# EAGLE library part TDA7294* (library Audio-Power-amlifier V.2.0)
100V - 100W DMOS Audio Amplifier with Mute/Standby
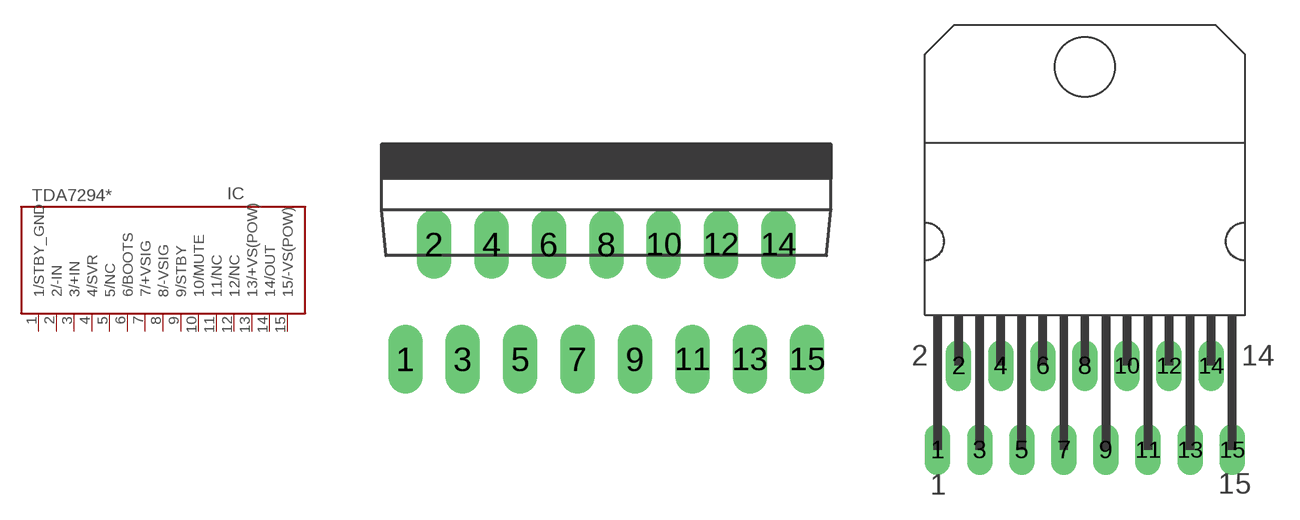
[diagram p13: symbol with the pads of MULTIWATT-15V; footprints MULTIWATT-15V, MULTIWATT-15H]

Designator prefix IC

## TDA7294VERTICAL  [MULTIWATT-15V]
1  1/STBY_GND  in
2  2/-IN  in
3  3/+IN  in
4  4/SVR
5  5/NC  nc
6  6/BOOTS
7  7/+VSIG  pwr
8  8/-VSIG  pwr
9  9/STBY  in
10  10/MUTE  in
11  11/NC  nc
12  12/NC  nc
13  13/+VS(POW)  pwr
14  14/OUT  out
15  15/-VS(POW)  pwr

## TDA7294HORIZONTAL  [MULTIWATT-15H]
Pads as for MULTIWATT-15V

## Footprint MULTIWATT-15V (pad centres in mm)
Multiwatt 15 vertical
drill 1.016 long: 1 -8.89,-5.08; 2 -7.62,0; 3 -6.35,-5.08; 4 -5.08,0; 5 -3.81,-5.08; 6 -2.54,0; 7 -1.27,-5.08; 8 0,0; 9 1.27,-5.08; 10 2.54,0; 11 3.81,-5.08; 12 5.08,0; 13 6.35,-5.08; 14 7.62,0; 15 8.89,-5.08

## Footprint MULTIWATT-15H (pad centres in mm)
Multiwatt 15 horizontal
drill 1.016 long: 1 -8.89,-5.08; 2 -7.62,0; 3 -6.35,-5.08; 4 -5.08,0; 5 -3.81,-5.08; 6 -2.54,0; 7 -1.27,-5.08; 8 0,0; 9 1.27,-5.08; 10 2.54,0; 11 3.81,-5.08; 12 5.08,0; 13 6.35,-5.08; 14 7.62,0; 15 8.89,-5.08